# Altium schematic symbol library Harness_Demo_PCB_A.SCHLIB: 2 symbols
Pins are listed as number, name and electrical type; pins without a type are passive.

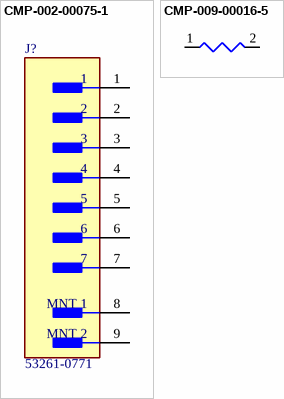
[diagram p0: symbols CMP-002-00075-1 to CMP-009-00016-5]

## CMP-002-00075-1
designator J?, comment 53261-0771
Board Connector, 7 Contact(s), 1 Row(s), Male, Right Angle, 0.049 inch Pitch, Surface Mount Terminal, Locking, Natural Insulator, Receptacle; Manufacturer: Molex; System: Connector; Manufacturer Part Number: 53261-0771; Component Type: Connectors
footprint FP-53261-0771-MFG
pins: 1, 2, 3, 4, 5, 6, 7, 8 MNT 1, 9 MNT 2

## CMP-009-00016-5
designator R?, comment Resistor 10k +/-1% 1206 250 mW  (value not drawn)
Chip Resistor, 10 KOhm, +/- 1%, 0.25 W, -55 to 155 degC, 1206 (3216 Metric); Manufacturer: Panasonic; Manufacturer Part Number: ERJ-8ENF1002V; Manufacturer: Vishay; Manufacturer Part Number: CRCW1206-10K0FKEA; Manufacturer: Yageo; Manufacturer Part Number: RC1206FR-0710KL; Power: 250mW; Voltage Rating: 200V; Pins: 2; Max Operating Temperature: 155°C; Tolerance: 1%; Value: 10k; RoHS Compliant: True; Case/Package: 1206; Min Operating Temperature: -55°C; Mounting Technology: SM; Component Type: Resistors
footprint RESC3216X60X45ML15T20 (Chip Resistor, 2-Leads, Body 3.3x1.75mm, IPC Low Density)
footprint RESC3216X60X45NL15T20 (Chip Resistor, 2-Leads, Body 3.3x1.75mm, IPC Medium Density)
footprint RESC3216X60X45LL15T20 (Chip Resistor, 2-Leads, Body 3.3x1.75mm, IPC High Density)
pins: 1, 2
1 alternate drawing of the same symbol